# Altium schematic symbol library 691 312 410 0xx.SchLib: 6 symbols
Pins are listed as number, name and electrical type; pins without a type are passive.

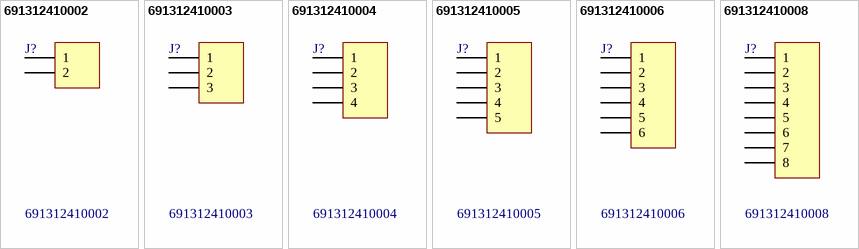
[diagram p0: symbols 691312410002 to 691312410008]

## 691312410002
designator J?
WR-TBL Terminal Blocks Serie 3124 - 7.62 mm; Manufacturer: Würth Elektronik eiSos GmbH; ComponentLink1 Description: Manufacturer; ComponentLink2 Description: Datasheet; NoPins: 02; Created Date: 09 April 2014; partNo: 691312410002; ComponentLink1URL: http://www.we-online.com; ComponentLink2URL: http://katalog.we-online.de/em/datasheet/6913124100xx.pdf; Created by: Karrer Zheng
footprint 691312410002 (7.62 mm -Open Horizontal PCB Header - 02p)
pins: 1, 2

## 691312410003
designator J?
WR-TBL Terminal Blocks Serie 3124 - 7.62 mm; Manufacturer: Würth Elektronik eiSos GmbH; ComponentLink1 Description: Manufacturer; ComponentLink2 Description: Datasheet; NoPins: 03; Created Date: 09 April 2014; partNo: 691312410003; ComponentLink1URL: http://www.we-online.com; ComponentLink2URL: http://katalog.we-online.de/em/datasheet/6913124100xx.pdf; Created by: Karrer Zheng
footprint 691312410003 (7.62 mm -Open Horizontal PCB Header - 03p)
pins: 1, 2, 3

## 691312410004
designator J?
WR-TBL Terminal Blocks Serie 3124 - 7.62 mm; Manufacturer: Würth Elektronik eiSos GmbH; ComponentLink1 Description: Manufacturer; ComponentLink2 Description: Datasheet; NoPins: 04; Created Date: 09 April 2014; partNo: 691312410004; ComponentLink1URL: http://www.we-online.com; ComponentLink2URL: http://katalog.we-online.de/em/datasheet/6913124100xx.pdf; Created by: Karrer Zheng
footprint 691312410004 (7.62 mm -Open Horizontal PCB Header - 04p)
pins: 1, 2, 3, 4

## 691312410005
designator J?
WR-TBL Terminal Blocks Serie 3124 - 7.62 mm; Manufacturer: Würth Elektronik eiSos GmbH; ComponentLink1 Description: Manufacturer; ComponentLink2 Description: Datasheet; NoPins: 05; Created Date: 09 April 2014; partNo: 691312410005; ComponentLink1URL: http://www.we-online.com; ComponentLink2URL: http://katalog.we-online.de/em/datasheet/6913124100xx.pdf; Created by: Karrer Zheng
footprint 691312410005 (7.62 mm -Open Horizontal PCB Header - 05p)
pins: 1, 2, 3, 4, 5

## 691312410006
designator J?
WR-TBL Terminal Blocks Serie 3124 - 7.62 mm; Manufacturer: Würth Elektronik eiSos GmbH; ComponentLink1 Description: Manufacturer; ComponentLink2 Description: Datasheet; NoPins: 06; Created Date: 09 April 2014; partNo: 691312410006; ComponentLink1URL: http://www.we-online.com; ComponentLink2URL: http://katalog.we-online.de/em/datasheet/6913124100xx.pdf; Created by: Karrer Zheng
footprint 691312410006 (7.62 mm -Open Horizontal PCB Header - 06p)
pins: 1, 2, 3, 4, 5, 6

## 691312410008
designator J?
WR-TBL Terminal Blocks Serie 3124 - 7.62 mm; Manufacturer: Würth Elektronik eiSos GmbH; ComponentLink1 Description: Manufacturer; ComponentLink2 Description: Datasheet; NoPins: 08; Created Date: 09 April 2014; partNo: 691312410008; ComponentLink1URL: http://www.we-online.com; ComponentLink2URL: http://katalog.we-online.de/em/datasheet/6913124100xx.pdf; Created by: Karrer Zheng
footprint 691312410008 (7.62 mm -Open Horizontal PCB Header - 08p)
pins: 1, 2, 3, 4, 5, 6, 7, 8